# EAGLE library part WF-12 (library gost_con_wf)
Разъем WF шаг 2.54mm
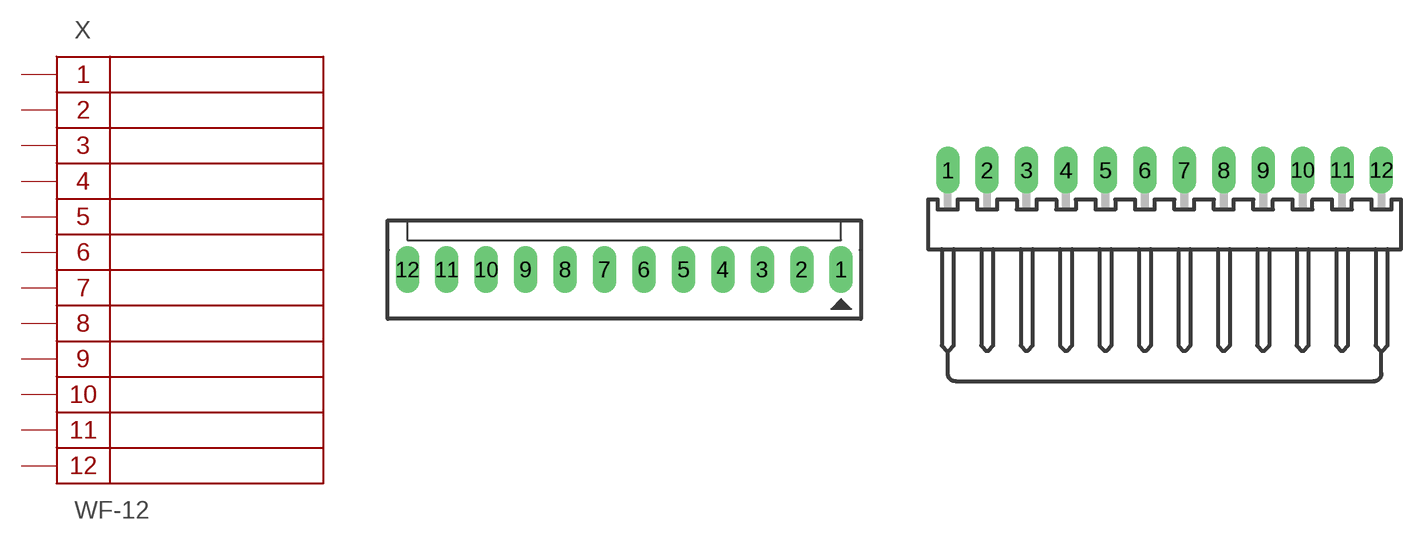
[diagram p11: symbol with the pads of WF-12; footprints WF-12, WF-12R]

Designator prefix X

## WF-12  [WF-12]
1  1
2  2
3  3
4  4
5  5
6  6
7  7
8  8
9  9
10  10
11  11
12  12

## WF-12R  [WF-12R]
Pads as for WF-12

## Footprint WF-12 (pad centres in mm)
Разъем WF-12 2.54mm
drill 1 pad 1.5 long: 1 13.97,0; 2 11.43,0; 3 8.89,0; 4 6.35,0; 5 3.81,0; 6 1.27,0; 7 -1.27,0; 8 -3.81,0; 9 -6.35,0; 10 -8.89,0; 11 -11.43,0; 12 -13.97,0

## Footprint WF-12R (pad centres in mm)
Разъем WF-12R 2.54mm
drill 1.016 pad 1.5 long: 1 -13.97,0; 2 -11.43,0; 3 -8.89,0; 4 -6.35,0; 5 -3.81,0; 6 -1.27,0; 7 1.27,0; 8 3.81,0; 9 6.35,0; 10 8.89,0; 11 11.43,0; 12 13.97,0